# EAGLE library part ELMA33 (library taster)
Elma 33 SMD Rotary Encoder from www.elma.com
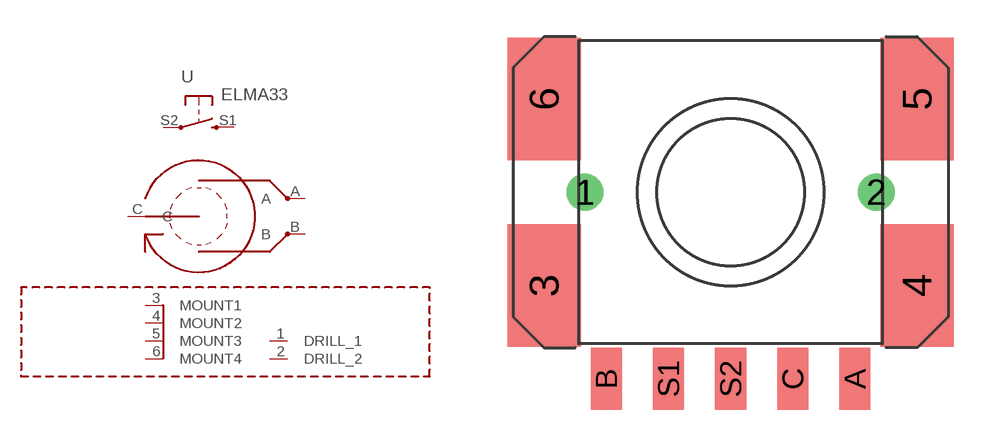
[diagram p2: symbol with the pads of ELMA_E33_SMD; footprint ELMA_E33_SMD]

Designator prefix -

## ELMA33_SMD  [ELMA_E33_SMD]
1  DRILL_1
2  DRILL_2
3  MOUNT1
4  MOUNT2
5  MOUNT3
6  MOUNT4
A  A
B  B
C  C
S1  D  pas
S2  E  pas

## Footprint ELMA_E33_SMD (pad centres in mm)
Rotary Encoder E33 www.elma.com
drill 1: 1 -5.95,0; 2 5.95,0
smd 3 x 5: 3 -7.62,-3.81; 4 7.62,-3.81; 5 7.62,3.81; 6 -7.62,3.81
smd 1.27 x 2.54: A 5.08,-7.62; B -5.08,-7.62; C 2.54,-7.62; S1 -2.54,-7.62; S2 0,-7.62